# Altium footprint library MOV_1206_3216.PcbLib: 1 footprints
Each footprint in its own frame and in the unit in brackets; x right, y up, seen from the top. Pads: shape width x height; smd on the part's side, far side on the other; paste and mask are expansions set on the pad; w line width, h text height; cw(c..) or ccw(c..) is an arc to the next point about the centre after c.
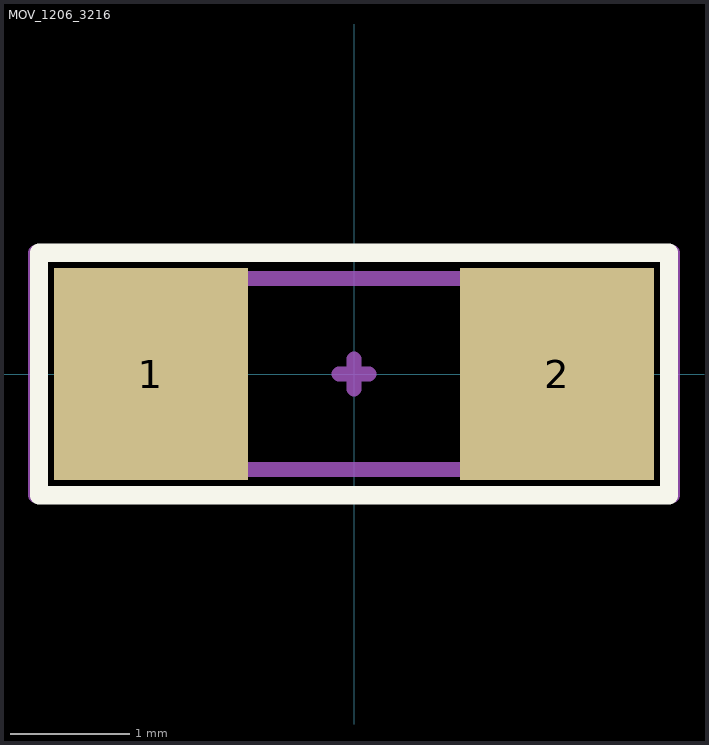
[diagram p0: the footprint, top view; thin cyan lines are the x and y axes]

## MOV_1206_3216 [mil]
pads (2):
  rect 64x70 smd: 1(-67,0) 2(67,0)
Top Overlay:
  lines w6: -104,-40 -104,40 -35,40 104,40 104,-40 -104,-40
Top Assembly:
  lines w5: -60.9,-31.49 65.09,-31.49 65.09,31.5 -60.9,31.5 -60.9,-31.49
Top Courtyard:
  lines w5: -5,0 5,0 ; 0,-5 0,5 ; -105,-40 105,-40 105,40 -105,40 -105,-40
3D body "User Library-V1206HD.STEP": height 58.54, standoff -0.51, extent -60.9,-31.49 65.09,31.5